# Altium footprint library 0537480208.PcbLib: 1 footprints
Each footprint in its own frame and in the unit in brackets; x right, y up, seen from the top. Pads: shape width x height; smd on the part's side, far side on the other; paste and mask are expansions set on the pad; w line width, h text height; cw(c..) or ccw(c..) is an arc to the next point about the centre after c.
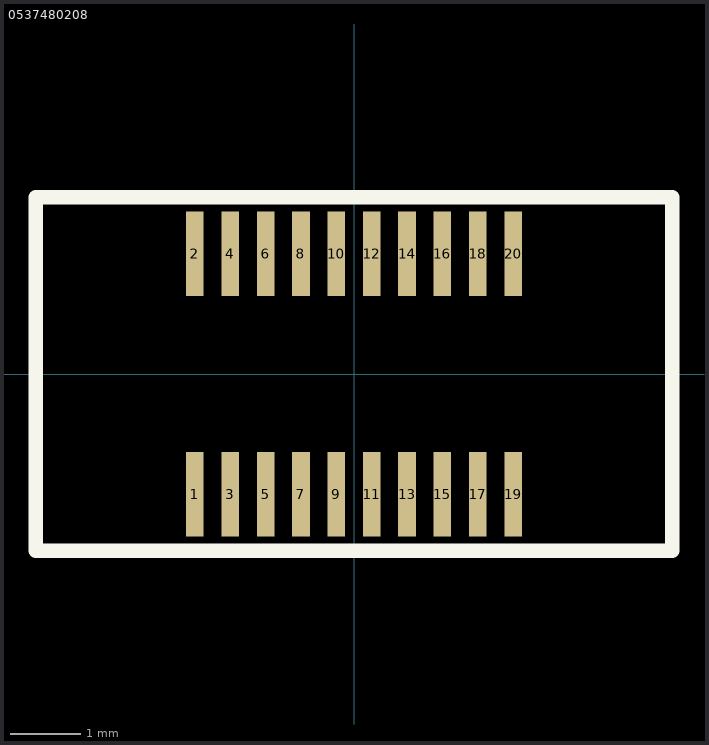
[diagram p0: the footprint, top view; thin cyan lines are the x and y axes]

## 0537480208 [mm]
pads (20):
  rect 0.25x1.2 smd: 1(-2.25,-1.7) 2(-2.25,1.7) 3(-1.75,-1.7) 4(-1.75,1.7) 5(-1.25,-1.7) 6(-1.25,1.7) 7(-0.75,-1.7) 8(-0.75,1.7) 9(-0.25,-1.7) 10(-0.25,1.7) 11(0.25,-1.7) 12(0.25,1.7) 13(0.75,-1.7) 14(0.75,1.7) 15(1.25,-1.7) 16(1.25,1.7) 17(1.75,-1.7) 18(1.75,1.7) 19(2.25,-1.7) 20(2.25,1.7)
Top Overlay:
  lines w0.2: -4.5,-2.5 -4.5,2.5 4.5,2.5 4.5,-2.5 -4.5,-2.5
3D body: height 2.4, standoff -0.02, extent -4.4,-2.15 4.4,2.15